# Altium footprint library MBLv1.PcbLib: 2 footprints
Each footprint in its own frame and in the unit in brackets; x right, y up, seen from the top. Pads: shape width x height; smd on the part's side, far side on the other; paste and mask are expansions set on the pad; w line width, h text height; cw(c..) or ccw(c..) is an arc to the next point about the centre after c.
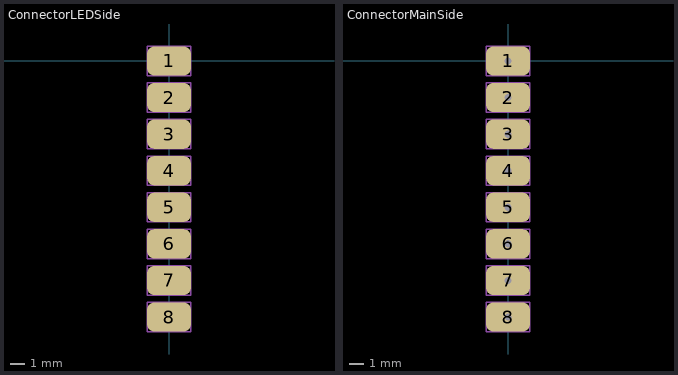
[diagram p0: the footprints below, top view; thin cyan lines are the x and y axes]

## ConnectorLEDSide [mm]
pads (8):
  rrect50% 3x2 smd: 1(0,0) 2(0,-2.5) 3(0,-5) 4(0,-7.5) 5(0,-10) 6(0,-12.5) 7(0,-15) 8(0,-17.5)
Mechanical 1:
  lines w0.1: -1.5,-18.5 -1.5,-16.5 1.5,-16.5 1.5,-18.5 -1.5,-18.5 ; -1.5,-16 -1.5,-14 1.5,-14 1.5,-16 -1.5,-16 ; -1.5,-13.5 -1.5,-11.5 1.5,-11.5 1.5,-13.5 -1.5,-13.5 ; -1.5,-11 1.5,-11 1.5,-9 -1.5,-9 -1.5,-11 ; -1.5,-8.5 1.5,-8.5 1.5,-6.5 -1.5,-6.5 -1.5,-8.5 ; -1.5,-6 1.5,-6 1.5,-4 -1.5,-4 -1.5,-6 ; -1.5,-3.5 1.5,-3.5 1.5,-1.5 -1.5,-1.5 -1.5,-3.5 ; -1.5,-1 -1.5,1 1.5,1 1.5,-1 -1.5,-1
  text "8" at -0.5,-18 h2
  text "7" at -0.5,-15.5 h2
  text "6" at -0.5,-13 h2
  text "5" at -0.5,-10.5 h2
  text "1" at -0.5,-0.5 h2
  text "2" at -0.5,-3 h2
  text "3" at -0.5,-5.5 h2
  text "4" at -0.5,-8 h2

## ConnectorMainSide [mm]
pads (8):
  rrect50% 3x2 hole 0.5: 1(0,0) 2(0,-2.5) 3(0,-5) 4(0,-7.5) 5(0,-10) 6(0,-12.5) 7(0,-15) 8(0,-17.5)
Mechanical 1:
  lines w0.1: -1.5,-18.5 1.5,-18.5 1.5,-16.5 -1.5,-16.5 -1.5,-18.5 ; -1.5,-16 1.5,-16 1.5,-14 -1.5,-14 -1.5,-16 ; -1.5,-13.5 1.5,-13.5 1.5,-11.5 -1.5,-11.5 -1.5,-13.5 ; -1.5,-11 -1.5,-9 1.5,-9 1.5,-11 -1.5,-11 ; -1.5,-8.5 -1.5,-6.5 1.5,-6.5 1.5,-8.5 -1.5,-8.5 ; -1.5,-6 -1.5,-4 1.5,-4 1.5,-6 -1.5,-6 ; -1.5,-3.5 -1.5,-1.5 1.5,-1.5 1.5,-3.5 -1.5,-3.5 ; -1.5,-1 1.5,-1 1.5,1 -1.5,1 -1.5,-1
  text "4" at -0.5,-8 h2
  text "3" at -0.5,-5.5 h2
  text "2" at -0.5,-3 h2
  text "1" at -0.5,-0.5 h2
  text "5" at -0.5,-10.5 h2
  text "6" at -0.5,-13 h2
  text "7" at -0.5,-15.5 h2
  text "8" at -0.5,-18 h2